# Altium footprint library Module.PcbLib: 23 footprints (part 2 of 2)
Each footprint in its own frame and in the unit in brackets; x right, y up, seen from the top. Pads: shape width x height; smd on the part's side, far side on the other; paste and mask are expansions set on the pad; w line width, h text height; cw(c..) or ccw(c..) is an arc to the next point about the centre after c.
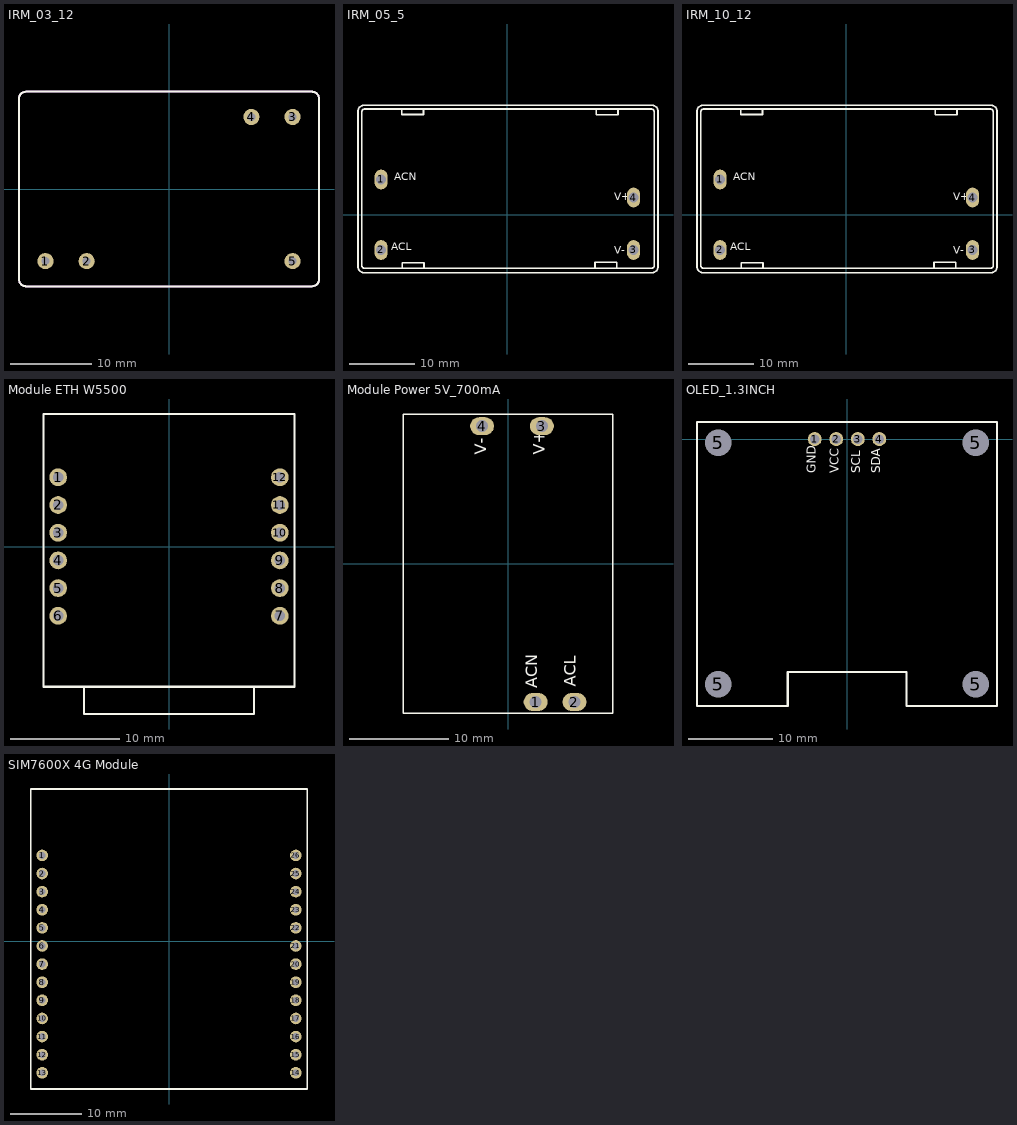
[diagram p1: the footprints below, top view; thin cyan lines are the x and y axes]

## IRM_03_12 [mm]
pads (5):
  round 2 hole 1: 1(-15.24,-8.89) 2(-10.16,-8.89) 3(15.24,8.89) 4(10.16,8.89) 5(15.24,-8.89)
Top Overlay:
  lines w0.254: -18.502,-11.148 ccw(c-17.661,-11.148) -18.416,-11.519 ; -18.502,-11.148 ccw(c-17.661,-11.148) -18.416,-11.519 ; -18.502,-11.148 -18.502,11.154 ; -18.502,-11.148 -18.502,11.154 ; -18.502,11.154 cw(c-17.651,11.154) -18.5,11.21 ; -18.502,11.154 cw(c-17.651,11.154) -18.5,11.21 ; -18.5,11.21 cw(c-17.659,11.154) -18.349,11.639 ; -18.5,11.21 cw(c-17.659,11.154) -18.349,11.639 ; -18.416,-11.519 ccw(c-17.646,-11.14) -18.138,-11.844 ; -18.416,-11.519 ccw(c-17.646,-11.14) -18.138,-11.844 ; -18.349,11.639 cw(c-17.646,11.147) -18.025,11.917 ; -18.349,11.639 cw(c-17.646,11.147) -18.025,11.917 ; -18.138,-11.844 ccw(c-17.653,-11.153) -17.709,-11.995 ; -18.138,-11.844 ccw(c-17.653,-11.153) -17.709,-11.995 ; -18.025,11.917 cw(c-17.654,11.162) -17.653,12.003 ; -18.025,11.917 cw(c-17.654,11.162) -17.653,12.003 ; -17.709,-11.995 ccw(c-17.653,-11.145) -17.653,-11.997 ; -17.709,-11.995 ccw(c-17.653,-11.145) -17.653,-11.997 ; -17.653,-11.997 17.648,-11.997 ; -17.653,-11.997 17.648,-11.997 ; -17.653,12.003 17.648,12.003 ; -17.653,12.003 17.648,12.003 ; 17.649,-11.997 ccw(c17.649,-11.155) 18.02,-11.911 ; 17.649,-11.997 ccw(c17.649,-11.155) 18.02,-11.911 ; 17.648,12.003 cw(c17.649,11.151) 17.704,12.001 ; 17.648,12.003 cw(c17.649,11.151) 17.704,12.001 ; 17.704,12.001 cw(c17.649,11.16) 18.133,11.85 ; 17.704,12.001 cw(c17.649,11.16) 18.133,11.85 ; 18.02,-11.911 ccw(c17.641,-11.14) 18.345,-11.632 ; 18.02,-11.911 ccw(c17.641,-11.14) 18.345,-11.632 ; 18.133,11.85 cw(c17.641,11.147) 18.411,11.526 ; 18.133,11.85 cw(c17.641,11.147) 18.411,11.526 ; 18.345,-11.632 ccw(c17.654,-11.148) 18.496,-11.203 ; 18.345,-11.632 ccw(c17.654,-11.148) 18.496,-11.203 ; 18.411,11.526 cw(c17.656,11.155) 18.498,11.154 ; 18.411,11.526 cw(c17.656,11.155) 18.498,11.154 ; 18.496,-11.203 ccw(c17.646,-11.148) 18.498,-11.148 ; 18.496,-11.203 ccw(c17.646,-11.148) 18.498,-11.148 ; 18.498,-11.148 18.498,11.154 ; 18.498,-11.148 18.498,11.154
Mechanical 13:
  lines w0.254: -18.502,-11.148 ccw(c-17.661,-11.148) -18.416,-11.519 ; -18.502,-11.148 ccw(c-17.661,-11.148) -18.416,-11.519 ; -18.502,-11.148 -18.502,11.154 ; -18.502,-11.148 -18.502,11.154 ; -18.502,11.154 cw(c-17.651,11.154) -18.5,11.21 ; -18.502,11.154 cw(c-17.651,11.154) -18.5,11.21 ; -18.5,11.21 cw(c-17.659,11.154) -18.349,11.639 ; -18.5,11.21 cw(c-17.659,11.154) -18.349,11.639 ; -18.416,-11.519 ccw(c-17.646,-11.14) -18.138,-11.844 ; -18.416,-11.519 ccw(c-17.646,-11.14) -18.138,-11.844 ; -18.349,11.639 cw(c-17.646,11.147) -18.025,11.917 ; -18.349,11.639 cw(c-17.646,11.147) -18.025,11.917 ; -18.138,-11.844 ccw(c-17.653,-11.153) -17.709,-11.995 ; -18.138,-11.844 ccw(c-17.653,-11.153) -17.709,-11.995 ; -18.025,11.917 cw(c-17.654,11.162) -17.653,12.003 ; -18.025,11.917 cw(c-17.654,11.162) -17.653,12.003 ; -17.709,-11.995 ccw(c-17.653,-11.145) -17.653,-11.997 ; -17.709,-11.995 ccw(c-17.653,-11.145) -17.653,-11.997 ; -17.653,-11.997 17.648,-11.997 ; -17.653,-11.997 17.648,-11.997 ; -17.653,12.003 17.648,12.003 ; -17.653,12.003 17.648,12.003 ; 17.649,-11.997 ccw(c17.649,-11.155) 18.02,-11.911 ; 17.649,-11.997 ccw(c17.649,-11.155) 18.02,-11.911 ; 17.648,12.003 cw(c17.649,11.151) 17.704,12.001 ; 17.648,12.003 cw(c17.649,11.151) 17.704,12.001 ; 17.704,12.001 cw(c17.649,11.16) 18.133,11.85 ; 17.704,12.001 cw(c17.649,11.16) 18.133,11.85 ; 18.02,-11.911 ccw(c17.641,-11.14) 18.345,-11.632 ; 18.02,-11.911 ccw(c17.641,-11.14) 18.345,-11.632 ; 18.133,11.85 cw(c17.641,11.147) 18.411,11.526 ; 18.133,11.85 cw(c17.641,11.147) 18.411,11.526 ; 18.345,-11.632 ccw(c17.654,-11.148) 18.496,-11.203 ; 18.345,-11.632 ccw(c17.654,-11.148) 18.496,-11.203 ; 18.411,11.526 cw(c17.656,11.155) 18.498,11.154 ; 18.411,11.526 cw(c17.656,11.155) 18.498,11.154 ; 18.496,-11.203 ccw(c17.646,-11.148) 18.498,-11.148 ; 18.496,-11.203 ccw(c17.646,-11.148) 18.498,-11.148 ; 18.498,-11.148 18.498,11.154 ; 18.498,-11.148 18.498,11.154
  text "'.Designator'" at -2.54,-0.527 h1.52
3D body "User Library-IRM-03.STEP": height 15, standoff -2.5, extent -18.576,-12.051 18.424,11.949

## IRM_05_5 [mm] "IRM_05_5"
pads (4):
  oval 2x3 hole 1.5: 1(-19.25,5.375) 2(-19.25,-5.375) 3(19.25,-5.375) 4(19.25,2.625)
Top Overlay:
  lines w0.254: -22.774,-7.896 -22.774,15.747 cw(c-21.898,15.801) -21.951,16.677 ; -22.769,-7.896 ccw(c-21.893,-7.949) -21.947,-8.825 22.147,-8.825 ccw(c22.094,-7.949) 22.97,-7.896 ; -22.19,4.916 -22.188,15.646 cw(c-21.755,15.682) -21.791,16.116 ; -22.19,4.967 -22.19,-7.767 ccw(c-21.756,-7.731) -21.72,-8.165 22.011,-8.165 ; -21.957,16.677 22.149,16.677 cw(c22.096,15.801) 22.972,15.747 22.972,-7.896 ; -21.791,16.118 21.922,16.118 cw(c21.958,15.684) 22.391,15.72 ; -16.119,16.118 -16.119,15.28 -12.792,15.28 -12.792,16.092 ; -16.043,-8.114 -16.043,-7.301 -12.715,-7.301 -12.715,-8.139 ; 13.37,-8.063 13.37,-7.25 16.698,-7.25 16.698,-8.088 ; 13.548,16.067 13.548,15.229 16.876,15.229 16.876,16.042 ; 22.011,-8.164 ccw(c21.975,-7.73) 22.409,-7.694 22.406,-6.216 22.406,15.72
  text "V-" at 16.31,-6.309 h2
  text "V+" at 16.31,1.819 h2
  text "ACN" at -17.218,4.867 h2
  text "ACL" at -17.726,-5.801 h2
3D body "irm-05-black.stp": height 21.5, standoff -3, extent -22.849,-8.834 22.85,16.566

## IRM_10_12 [mm] "IRM_10_12"
pads (4):
  oval 2x3 hole 1.5: 1(-19.25,5.375) 2(-19.25,-5.375) 3(19.25,-5.375) 4(19.25,2.625)
Top Overlay:
  lines w0.254: -22.774,-7.896 -22.774,15.747 cw(c-21.898,15.801) -21.951,16.677 ; -22.769,-7.896 ccw(c-21.893,-7.949) -21.947,-8.825 22.147,-8.825 ccw(c22.094,-7.949) 22.97,-7.896 ; -22.19,4.916 -22.188,15.646 cw(c-21.755,15.682) -21.791,16.116 ; -22.19,4.967 -22.19,-7.767 ccw(c-21.756,-7.731) -21.72,-8.165 22.011,-8.165 ; -21.957,16.677 22.149,16.677 cw(c22.096,15.801) 22.972,15.747 22.972,-7.896 ; -21.791,16.118 21.922,16.118 cw(c21.958,15.684) 22.391,15.72 ; -16.119,16.118 -16.119,15.28 -12.792,15.28 -12.792,16.092 ; -16.043,-8.114 -16.043,-7.301 -12.715,-7.301 -12.715,-8.139 ; 13.37,-8.063 13.37,-7.25 16.698,-7.25 16.698,-8.088 ; 13.548,16.067 13.548,15.229 16.876,15.229 16.876,16.042 ; 22.011,-8.164 ccw(c21.975,-7.73) 22.409,-7.694 22.406,-6.216 22.406,15.72
  text "V-" at 16.31,-6.309 h2
  text "V+" at 16.31,1.819 h2
  text "ACN" at -17.218,4.867 h2
  text "ACL" at -17.726,-5.801 h2
3D body "User Library-IRM-10-12.STEP": height 22.05, standoff -3.5, extent -22.778,-8.8 22.921,16.6

## Module ETH W5500 [mil] "Module ETH W5500"
pads (12):
  round 64.02 hole 37.4: 1(-400,250) 2(-400,150) 3(-400,50) 4(-400,-50) 5(-400,-150) 6(-400,-250) 7(400,-250) 8(400,-150) 9(400,-50) 10(400,50) 11(400,150) 12(400,250)
Top Overlay:
  lines w8: -307.09,-505.9 -307.09,-604.33 307.09,-604.33 307.09,-505.9 ; -452.75,-505.91 -452.75,478.34 452.75,478.35 452.75,-505.9 -452.75,-505.9
3D body "Lite_w5500.step": height 768.96, standoff -228.51, extent -452.75,-605 452.76,477.68

## Module Power 5V_700mA [mm] "Module Power 5V_700mA"
pads (4):
  oval 2.4x1.8 hole 1.2: 1(2.77,-13.9) 2(6.67,-13.9) 3(3.4,13.78) 4(-2.6,13.78)
Top Overlay:
  lines w0.127: -10.5,-15 -10.5,15 10.5,15 10.5,-15 -10.5,-15
  text "V-" at -1.803,10.922 h2
  text "V+" at 4.089,10.922 h2
  text "ACN" at 3.327,-12.497 h2
  text "ACL" at 7.214,-12.344 h2
3D body "220ACto5VDC.STEP": height 17.22, standoff 0.8, extent -10.5,-15 10.5,15

## OLED_1.3INCH [mm] "OLED_1.3INCH, SH1106"
pads (8):
  round 1.65 hole 1.1: 1(-3.81,0) 2(-1.27,0) 3(1.27,0) 4(3.81,0)
  round 3 hole 3.1 mask+0: 5(-15.196,-28.928) 5(-15.196,-0.415) 5(15.2,-28.928) 5(15.2,-0.415)
Top Overlay:
  lines w0.254: -17.706,-31.5 -17.706,2.028 -17.147,2.028 17.702,2.028 17.702,-31.5 7.002,-31.5 7.002,-27.5 ; -17.698,-31.5 -6.998,-31.5 -6.998,-27.5 ; -6.998,-27.5 7.002,-27.5
  text "GND" at -3.32,-4 h1.8
  text "SCL" at 1.887,-4 h1.8
  text "VCC" at -0.628,-4 h1.8
  text "SDA" at 4.3,-4 h1.8
3D body "AZ-Delivery - OLED13 IIC.stp": height 19.1, standoff 7.9, extent -17.698,-31.5 17.702,2

## SIM7600X 4G Module [mm] "SIM7600X 4G Module"
pads (26):
  round 1.626 hole 0.95: 1(-17.786,12.046) 2(-17.786,9.506) 3(-17.786,6.966) 4(-17.786,4.426) 5(-17.786,1.886) 6(-17.786,-0.654) 7(-17.786,-3.194) 8(-17.786,-5.734) 9(-17.786,-8.274) 10(-17.786,-10.814) 11(-17.786,-13.354) 12(-17.786,-15.894) 13(-17.786,-18.434) 14(17.785,-18.434) 15(17.785,-15.894) 16(17.785,-13.354) 17(17.785,-10.814) 18(17.785,-8.274) 19(17.785,-5.734) 20(17.785,-3.194) 21(17.785,-0.654) 22(17.785,1.886) 23(17.785,4.426) 24(17.785,6.966) 25(17.785,9.506) 26(17.785,12.046)
Top Overlay:
  lines w0.254: -19.396,-20.704 -19.396,21.356 19.396,21.356 19.396,-20.699 -19.396,-20.704
3D body "61300311121.stp": height 9.54, standoff -2, extent 16.516,-19.704 19.056,-12.084
3D body "61301011121.stp": height 9.54, standoff -2, extent 16.516,-12.084 19.056,13.316
3D body "61300311121.stp": height 9.54, standoff -2, extent -19.055,-19.704 -16.515,-12.084
3D body "61301011121.stp": height 9.54, standoff -2, extent -19.055,-12.084 -16.515,13.316
3D body "sim7600x_4g_module.stp": height 11.56, standoff 2.18, extent -19.396,-21.356 19.396,21.356